# Altium footprint library Res_3_2__1_6.PcbLib: 1 footprints
Each footprint in its own frame and in the unit in brackets; x right, y up, seen from the top. Pads: shape width x height; smd on the part's side, far side on the other; paste and mask are expansions set on the pad; w line width, h text height; cw(c..) or ccw(c..) is an arc to the next point about the centre after c.
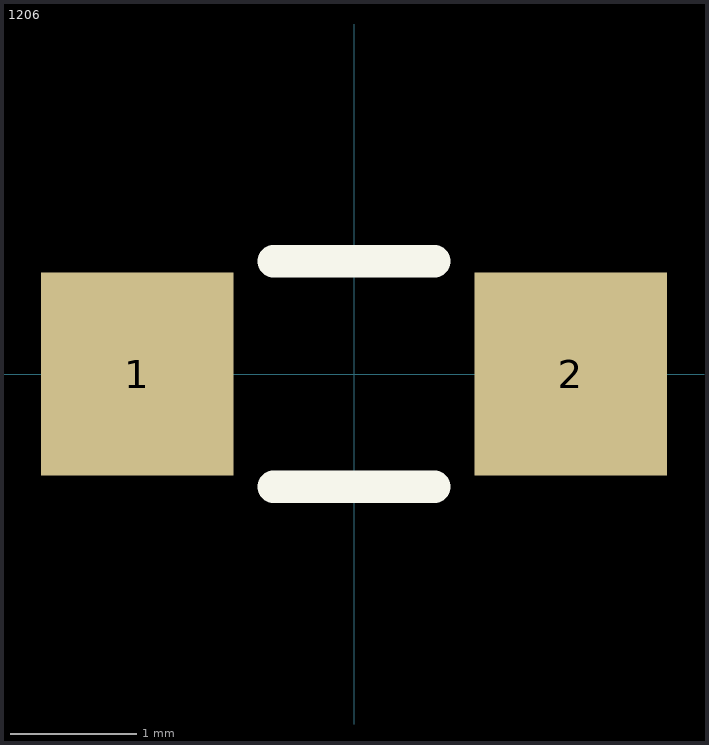
[diagram p0: the footprint, top view; thin cyan lines are the x and y axes]

## 1206 [mm]
pads (2):
  rect 1.52x1.6 smd: 1(-1.71,0) 2(1.71,0)
Top Overlay:
  lines w0.254: -0.635,-0.889 0.635,-0.889 ; -0.635,0.889 0.635,0.889
3D body "SMD1206.STEP": height 0.7, standoff 0, extent -1.6,-0.8 1.6,0.8